# Altium schematic symbol library optic_fiber_tx.SchLib: 7 symbols
Pins are listed as number, name and electrical type; pins without a type are passive.

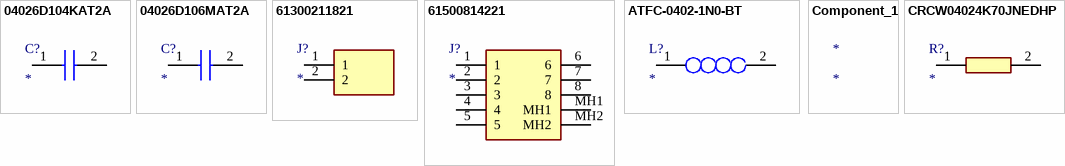
[diagram p0: symbols 04026D104KAT2A to CRCW04024K70JNEDHP]

## 04026D104KAT2A
designator C?
Capacitor; Manufacturer_Name: Kyocera AVX; Manufacturer_Part_Number: 04026D104KAT2A; Datasheet Link: http://www.mouser.com/catalog/supplier/library/pdf/AVXSurfaceMountCeramic.pdf; Height: 0.56mm; Mouser Part Number: 581-04026D104KAT2A; Mouser Price/Stock: https://www.mouser.co.uk/ProductDetail/AVX/04026D104KAT2A?qs=LLG2yGGJ5NhILwMziGI8Xg%3D%3D; Arrow Part Number: 04026D104KAT2A; Arrow Price/Stock: https://www.arrow.com/en/products/04026d104kat2a/avx?region=nac
footprint CAPC1005X56N
pins: 1, 2

## 04026D106MAT2A
designator C?
Capacitor; Manufacturer_Name: Kyocera AVX; Manufacturer_Part_Number: 04026D106MAT2A; Datasheet Link: http://www.mouser.com/catalog/supplier/library/pdf/AVXSurfaceMountCeramic.pdf; Height: 0.56mm; Mouser Part Number: 581-04026D106MAT2A; Mouser Price/Stock: https://www.mouser.co.uk/ProductDetail/AVX/04026D106MAT2A?qs=XLNwXgtzMM9wXpSOj34Byg%3D%3D; Arrow Part Number: 04026D106MAT2A; Arrow Price/Stock: https://www.arrow.com/en/products/04026d106mat2a/avx
footprint CAPC1005X56N
pins: 1, 2

## 61300211821
designator J?
Connector; Manufacturer_Part_Number: 61300211821; Description: Wurth Elektronik; Datasheet Link: https://www.we-online.com/catalog/datasheet/61300211821.pdf; Height: 8.65mm; Manufacturer_Name: Wurth Elektronik
footprint 61300211821
pins: 1, 2

## 61500814221
designator J?
Connector; Manufacturer_Name: Wurth Elektronik; Manufacturer_Part_Number: 61500814221; Datasheet Link: http://katalog.we-online.de/em/datasheet/61500814221.pdf; Height: 16.53mm; Mouser Part Number: 710-61500814221; Mouser Price/Stock: https://www.mouser.co.uk/ProductDetail/Wurth-Elektronik/61500814221?qs=rS3zZhy2AQOW6FITBQg0lg%3D%3D
footprint 61500814221
pins: 1, 2, 3, 4, 5, 6, 7, 8, MH1, MH2

## ATFC-0402-1N0-BT
designator L?
Inductor; Manufacturer_Name: ABRACON; Manufacturer_Part_Number: ATFC-0402-1N0-BT; Datasheet Link: http://www.mouser.com/ds/2/3/ATFC-0402-6001.pdf; Height: 0.37mm; Mouser Part Number: 815-ATFC-0402-1N0-BT
footprint INDC1005X37N
pins: 1, 2

## Component_1
designator *

## CRCW04024K70JNEDHP
designator R?
Resistor; Manufacturer_Name: Vishay; Manufacturer_Part_Number: CRCW04024K70JNEDHP; Datasheet Link: http://www.vishay.com/docs/20035/dcrcwe3.pdf; Height: 0.4mm; Mouser Part Number: 71-CRCW04024K70JNEDH; Mouser Price/Stock: https://www.mouser.co.uk/ProductDetail/Vishay-Dale/CRCW04024K70JNEDHP?qs=k2%2FDWSARqgGhgirK%2FulFyA%3D%3D; Arrow Part Number: CRCW04024K70JNEDHP; Arrow Price/Stock: https://www.arrow.com/en/products/crcw04024k70jnedhp/vishay?region=nac
footprint RESC1005X40N
pins: 1, 2